# Altium footprint library PowerBoard.PcbLib: 23 footprints (part 1 of 2)
Each footprint in its own frame and in the unit in brackets; x right, y up, seen from the top. Pads: shape width x height; smd on the part's side, far side on the other; paste and mask are expansions set on the pad; w line width, h text height; cw(c..) or ccw(c..) is an arc to the next point about the centre after c.
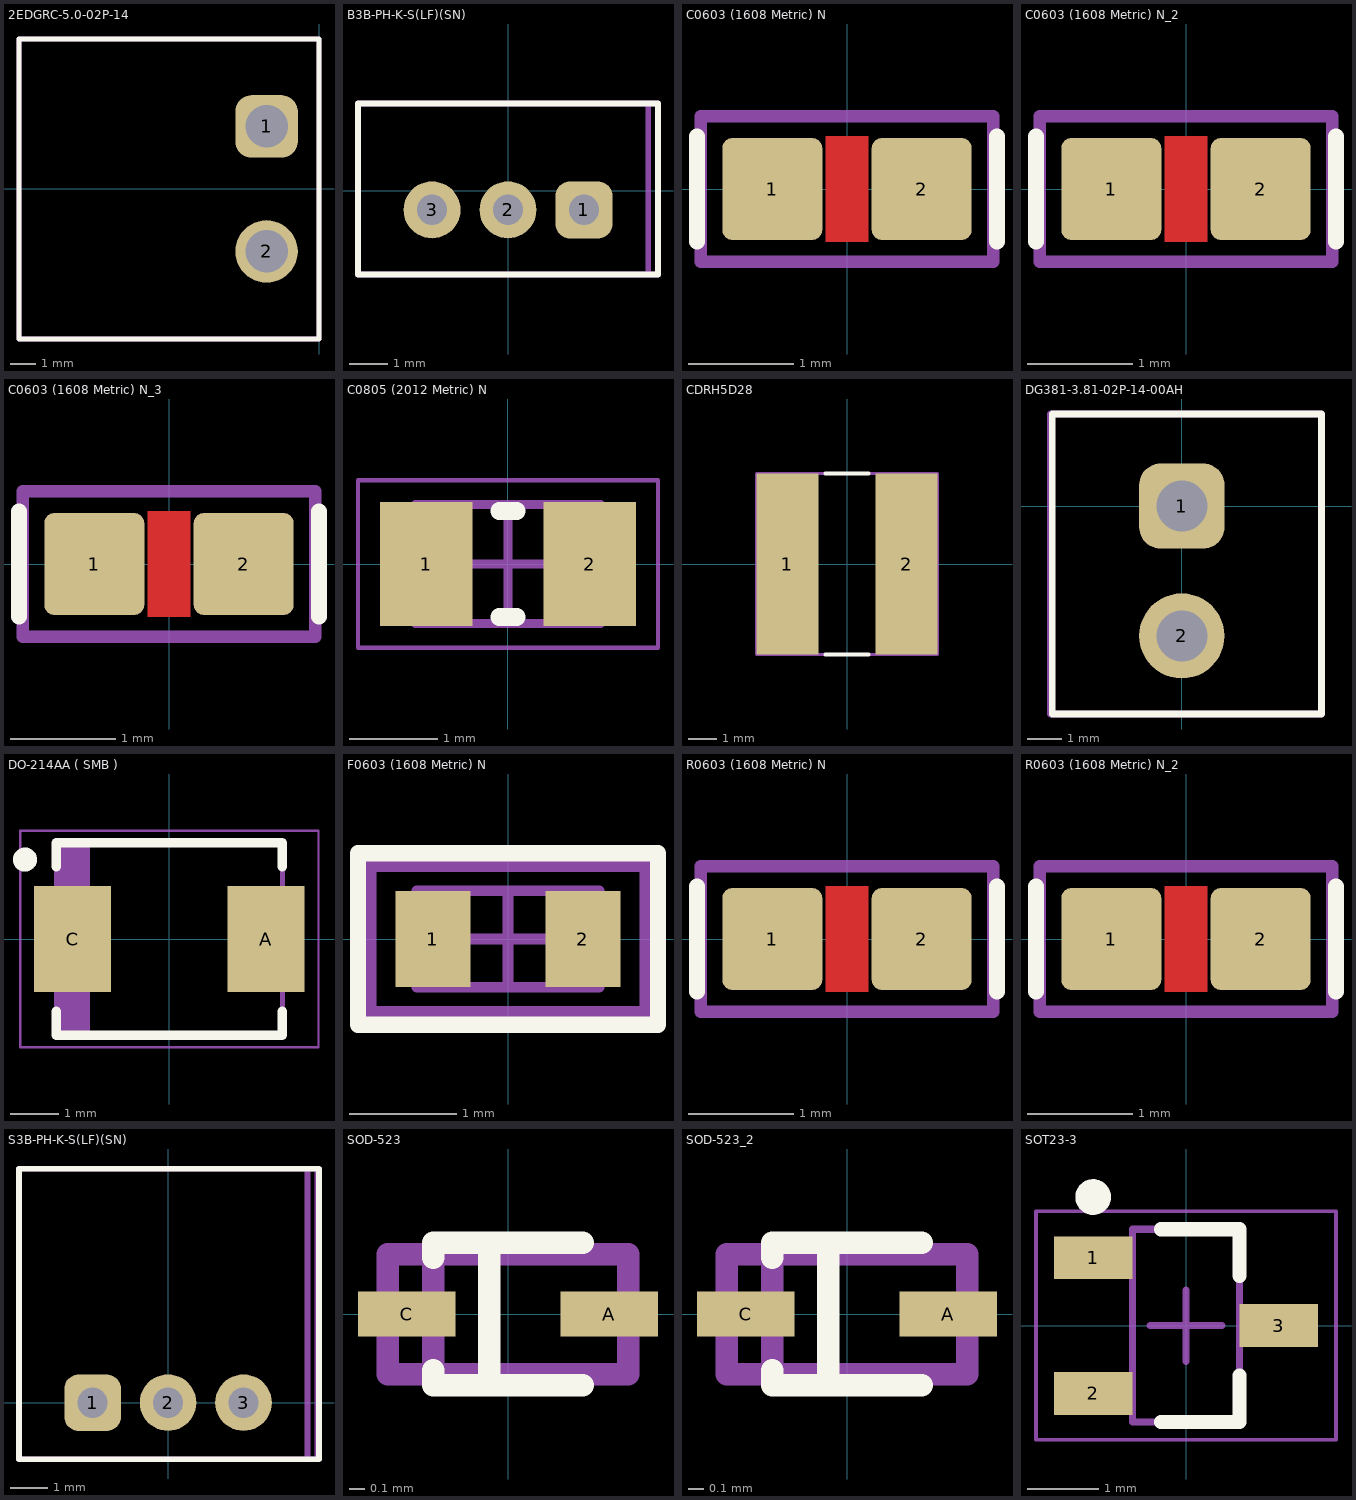
[diagram p0: the footprints below, top view; thin cyan lines are the x and y axes]

## 2EDGRC-5.0-02P-14 [mm]
pads (2):
  rrect50% 2.5x2.5 hole 1.7: 1(-2.1,2.5)
  round 2.5 hole 1.7: 2(-2.1,-2.5)
Top Overlay:
  lines w0.2: -12,-6 0,-6 0,6 -12,6 ; -12,-6 -12,-6 ; -12,-6 -12,6 ; -12,6 -12,6
Top Assembly:
  lines w0.2: 0,-6 0,6 -12,6 -12,-6 0,-6 ; 0,-6 0,-6
3D body "2EDGRC-5.0-02P-14-100A(H).stp": height 10, standoff -1.7, extent -12,-6 0,6

## B3B-PH-K-S(LF)(SN) [mm]
pads (3):
  rrect50% 1.5x1.5 hole 0.8: 1(2,-0.5)
  round 1.5 hole 0.8: 2(0,-0.5) 3(-2,-0.5)
Top Overlay:
  lines w0.15: -3.95,-2.2 -3.95,2.3 3.95,2.3 3.95,-2.2 -3.95,-2.2
Top Assembly:
  lines w0.15: 3.696,-2.2 3.696,2.3 ; -3.95,-2.2 -3.95,2.3 3.95,2.3 3.95,-2.2 -3.95,-2.2
3D body "B3B-PH-K-S(LF)(SN).step": height 6.05, standoff -3.35, extent -3.95,-2.25 3.95,2.25

## C0603 (1608 Metric) N [mm]
pads (2):
  rrect20% 0.95x0.97 smd: 1(-0.71,0) 2(0.71,0)
Top Layer:
  pour cut-out: -0.2,0.5 0.2,0.5 0.2,-0.5 -0.2,-0.5
Top Overlay:
  lines w0.15: -1.425,-0.5 -1.425,0.5 ; 1.425,-0.5 1.425,0.5
Mechanical 6:
  lines w0.12: -1.39,-0.69 -1.39,0.69 1.39,0.69 1.39,-0.69 -1.39,-0.69
Mechanical 15:
  lines w0.05: -1.39,-0.69 -1.39,0.69 1.39,0.69 1.39,-0.69 -1.39,-0.69
3D body "CAPC160X80X95L40.STEP": height 0.95, standoff 0, extent -0.8,-0.4 0.8,0.4

## C0603 (1608 Metric) N_2 [mm]
pads (2):
  rrect20% 0.95x0.97 smd: 1(-0.71,0) 2(0.71,0)
Top Layer:
  pour cut-out: -0.2,0.5 0.2,0.5 0.2,-0.5 -0.2,-0.5
Top Overlay:
  lines w0.15: -1.425,-0.5 -1.425,0.5 ; 1.425,-0.5 1.425,0.5
Mechanical 6:
  lines w0.12: -1.39,-0.69 -1.39,0.69 1.39,0.69 1.39,-0.69 -1.39,-0.69
Mechanical 15:
  lines w0.05: -1.39,-0.69 -1.39,0.69 1.39,0.69 1.39,-0.69 -1.39,-0.69
3D body "CAPC160X80X95L40.STEP": height 0.95, standoff 0, extent -0.8,-0.4 0.8,0.4

## C0603 (1608 Metric) N_3 [mm]
pads (2):
  rrect20% 0.95x0.97 smd: 1(-0.71,0) 2(0.71,0)
Top Layer:
  pour cut-out: -0.2,0.5 0.2,0.5 0.2,-0.5 -0.2,-0.5
Top Overlay:
  lines w0.15: -1.425,-0.5 -1.425,0.5 ; 1.425,-0.5 1.425,0.5
Mechanical 6:
  lines w0.12: -1.39,-0.69 -1.39,0.69 1.39,0.69 1.39,-0.69 -1.39,-0.69
Mechanical 15:
  lines w0.05: -1.39,-0.69 -1.39,0.69 1.39,0.69 1.39,-0.69 -1.39,-0.69
3D body "CAPC160X80X95L40.STEP": height 0.95, standoff 0, extent -0.8,-0.4 0.8,0.4

## C0805 (2012 Metric) N [mm] "Chip Capacitor, 2-Leads, Body 2.00x1.25mm, IPC Medium Density"
height 0.6
pads (2):
  rect 1.05x1.4 smd: 1(-0.925,0) 2(0.925,0)
Top Overlay:
  lines w0.2: -0.1,-0.6 0.1,-0.6 ; -0.1,0.6 0.1,0.6
Mechanical 6:
  lines w0.1: -1.05,-0.675 -1.05,0.675 1.05,0.675 1.05,-0.675 -1.05,-0.675
Mechanical 15:
  lines w0.05: -1.7,-0.95 1.7,-0.95 1.7,0.95 -1.7,0.95 -1.7,-0.95
  lines w0.1: -0.5,0 0.5,0 ; 0,-0.5 0,0.5
3D body: height 0.6, standoff 0, extent 0.7,-0.675 1.05,0.675
3D body: height 0.6, standoff 0, extent -1.05,-0.675 -0.7,0.675
3D body: height 0.6, standoff 0, extent -0.7,-0.675 0.7,0.675

## CDRH5D28 [mm]
height 3
pads (2):
  rect 2.15x6.3 smd: 1(-2.075,0) 2(2.075,0)
Top Overlay:
  lines w0.15: -0.75,-3.15 0.75,-3.15 ; -0.75,3.15 0.75,3.15
Mechanical 6:
  lines w0.1: -3.15,-3.15 -3.15,3.15 3.15,3.15 3.15,-3.15 -3.15,-3.15
Top 3D Body:
  lines w0.1: -3.15,-3.15 3.15,-3.15 3.15,3.15 -3.15,3.15 -3.15,-3.15
3D body "CDRH5D28.step": height 3, standoff 0, extent -3,-3 3,3

## DG381-3.81-02P-14-00AH [mm] "DG381-3.81-02P-14-00AH"
pads (2):
  rrect50% 2.5x2.5 hole 1.5: 1(0,0)
  round 2.5 hole 1.5: 2(0,-3.81)
Top Overlay:
  lines w0.2: -3.8,-6.1 4.1,-6.1 4.1,2.7 -3.8,2.7 -3.8,-6.1
Top Assembly:
  lines w0.2: -3.856,-6.1 4.1,-6.1 4.1,2.7 -3.856,2.7 -3.856,-6.056
  text ".Designator" at 3.338,-5.546 h1.52
3D body "DG381-3.81-02P-14-00AH.STEP": height 8.6, standoff -3.6, extent -3.6,-5.76 3.8,2.36

## DO-214AA ( SMB ) [mm]
height 2.39
pads (2):
  rect 1.6x2.2 smd: A(2.01,0) C(-2.01,0)
Top Overlay:
  circle w0.25: c-3,1.65 r0.125
  lines w0.2: -2.35,-1.5 -2.35,-2 2.35,-2 2.35,-1.5 ; -2.35,1.5 -2.35,2 2.35,2 2.35,1.5
Top Assembly:
  rectangle: -2.35,-1.97 -1.651,1.97
  lines w0.1: -2.35,-1.97 -2.35,1.97 2.35,1.97 2.35,-1.97 -2.35,-1.97
Mechanical 4:
  text "'.Designator'" at -0.381,-0.635 h2
Mechanical 15:
  lines w0.05: -3.1,-2.25 -3.1,2.25 3.1,2.25 3.1,-2.25 -3.1,-2.25
3D body "DO-214AA ( SMB ).step": height 2.38, standoff 0, extent -2.57,-1.97 2.57,1.97

## F0603 (1608 Metric) N [mm] "Chip Resistor, 2-Leads, Body 1.60x0.80mm, IPC Medium Density"
height 0.9
pads (2):
  rect 0.7x0.9 smd: 1(-0.7,0) 2(0.7,0)
Top Overlay:
  lines w0.15: -1.4,-0.8 -1.4,0.8 1.4,0.8 1.4,-0.8 -1.4,-0.8
Mechanical 6:
  lines w0.15: -1.3,-0.7 -1.3,0.7 1.3,0.7 1.3,-0.7 -1.3,-0.7
Top 3D Body:
  lines w0.1: -0.85,-0.45 0.85,-0.45 0.85,0.45 -0.85,0.45 -0.85,-0.45
Mechanical 15:
  lines w0.05: -1.3,-0.7 1.3,-0.7 1.3,0.7 -1.3,0.7 -1.3,-0.7
  lines w0.1: -0.45,0 0.45,0 ; 0,-0.45 0,0.45
3D body: height 0.4, standoff 0, extent 0.6,-0.45 0.85,0.45
3D body: height 0.4, standoff 0, extent -0.85,-0.45 -0.6,0.45
3D body: height 0.4, standoff 0, extent -0.6,-0.45 0.6,0.45

## R0603 (1608 Metric) N [mm]
pads (2):
  rrect20% 0.95x0.97 smd: 1(-0.71,0) 2(0.71,0)
Top Layer:
  pour cut-out: -0.2,0.5 0.2,0.5 0.2,-0.5 -0.2,-0.5
Top Overlay:
  lines w0.15: -1.425,-0.5 -1.425,0.5 ; 1.425,-0.5 1.425,0.5
Mechanical 6:
  lines w0.12: -1.39,-0.69 1.39,-0.69 1.39,0.69 -1.39,0.69 -1.39,-0.69
Mechanical 15:
  lines w0.05: -1.39,-0.69 -1.39,0.69 1.39,0.69 1.39,-0.69 -1.39,-0.69
3D body "RESC160X80X95L40.STEP": height 0.95, standoff 0, extent -0.8,-0.4 0.8,0.4

## R0603 (1608 Metric) N_2 [mm]
pads (2):
  rrect20% 0.95x0.97 smd: 1(-0.71,0) 2(0.71,0)
Top Layer:
  pour cut-out: -0.2,0.5 0.2,0.5 0.2,-0.5 -0.2,-0.5
Top Overlay:
  lines w0.15: -1.425,-0.5 -1.425,0.5 ; 1.425,-0.5 1.425,0.5
Mechanical 6:
  lines w0.12: -1.39,-0.69 1.39,-0.69 1.39,0.69 -1.39,0.69 -1.39,-0.69
Mechanical 15:
  lines w0.05: -1.39,-0.69 -1.39,0.69 1.39,0.69 1.39,-0.69 -1.39,-0.69
3D body "RESC160X80X95L40.STEP": height 0.95, standoff 0, extent -0.8,-0.4 0.8,0.4

## S3B-PH-K-S(LF)(SN) [mm]
pads (3):
  rrect50% 1.5x1.5 hole 0.8: 1(-2,0)
  round 1.5 hole 0.8: 2(0,0) 3(2,0)
Top Overlay:
  lines w0.15: -3.95,-1.5 -3.95,6.2 4,6.2 4,-1.5 -3.95,-1.5
Top Assembly:
  lines w0.15: 3.696,-1.5 3.696,6.2 ; -3.95,-1.5 -3.95,6.2 3.95,6.2 3.95,-1.5 -3.95,-1.5
3D body "s3b-ph-k-s.STEP": height 4.62, standoff -3.35, extent -4,-0.25 4,6

## SOD-523 [mm]
pads (2):
  rect 0.65x0.3 smd: A(0.675,0) C(-0.675,0)
Top Overlay:
  lines w0.15: -0.5,-0.375 -0.5,-0.475 0.5,-0.475 ; -0.5,0.375 -0.5,0.475 0.5,0.475 ; -0.125,-0.475 -0.125,0.475
Top Assembly:
  lines w0.15: -0.5,-0.4 -0.5,0.4 ; -0.8,-0.4 0.8,-0.4 0.8,0.4 -0.8,0.4 -0.8,-0.4
3D body "SOD523.step": height 0.7, standoff 0, extent -0.8,-0.399 0.8,0.399

## SOD-523_2 [mm]
pads (2):
  rect 0.65x0.3 smd: A(0.675,0) C(-0.675,0)
Top Overlay:
  lines w0.15: -0.5,-0.375 -0.5,-0.475 0.5,-0.475 ; -0.5,0.375 -0.5,0.475 0.5,0.475 ; -0.125,-0.475 -0.125,0.475
Top Assembly:
  lines w0.15: -0.5,-0.4 -0.5,0.4 ; -0.8,-0.4 0.8,-0.4 0.8,0.4 -0.8,0.4 -0.8,-0.4
3D body "SOD523.step": height 0.7, standoff 0, extent -0.8,-0.399 0.8,0.399

## SOT23-3 [mm] "SOT23, 3-Leads, Body 2,90x2,60mm, Pitch 0,95mm, IPC Medium Density"
height 1.3
pads (3):
  rect 1.1x0.6 smd: 1(-1.3,0.95) 2(-1.3,-0.95) 3(1.3,0)
Top Overlay:
  circle w0.25: c-1.3,1.8 r0.125
  lines w0.2: -0.35,-1.35 0.75,-1.35 0.75,-0.7 ; -0.35,1.35 0.75,1.35 0.75,0.7
Top Assembly:
  lines w0.1: -0.75,-1.35 0.75,-1.35 0.75,1.35 -0.75,1.35 -0.75,-1.35
Mechanical 15:
  lines w0.05: -2.1,-1.6 2.1,-1.6 2.1,1.6 -2.1,1.6 -2.1,-1.6
  lines w0.1: -0.5,0 0.5,0 ; 0,-0.5 0,0.5
3D body: height 1.3, standoff 0.05, extent -0.75,-1.35 0.75,1.35
3D body "SOT23-3.stp": height 1.2, standoff 0.02, extent -1.418,-1.5 1.418,1.5